# Altium schematic symbol library 610 0xx 119 21.SchLib: 12 symbols
Pins are listed as number, name and electrical type; pins without a type are passive.

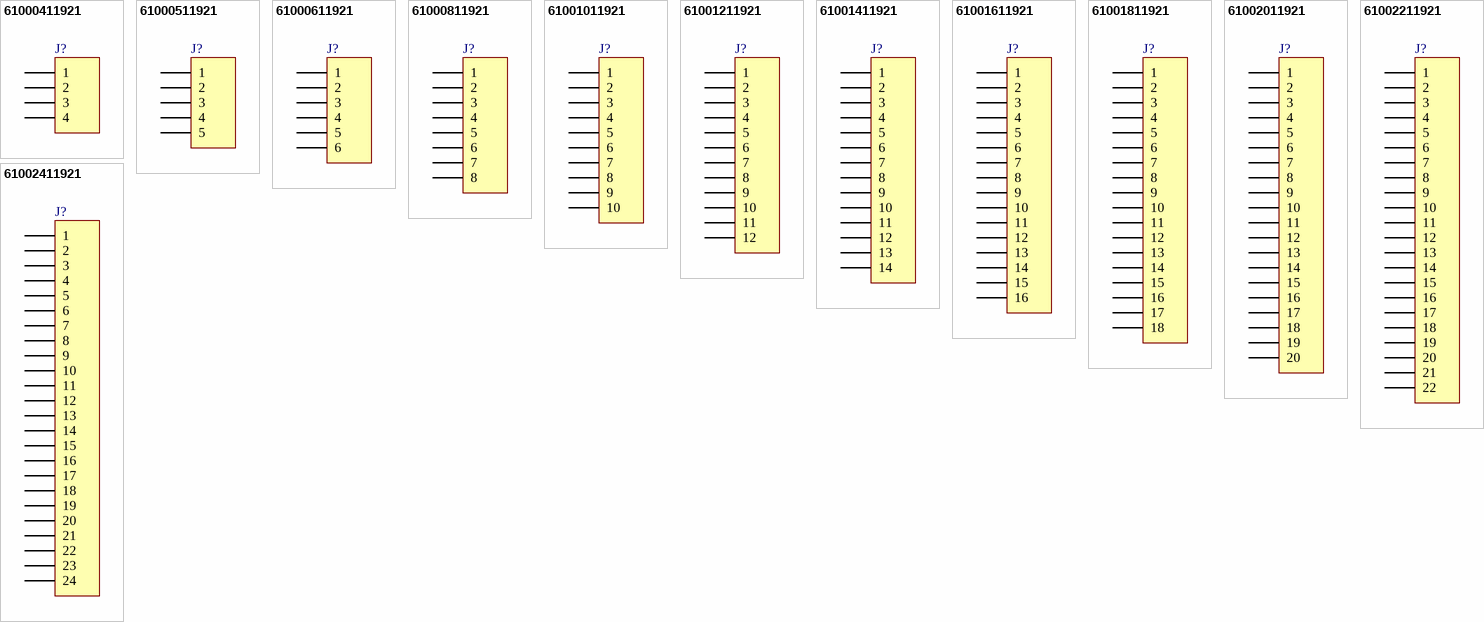
[diagram p0: symbols 61000411921 to 61002411921]

## 61000411921
designator J?, comment 04p  (value not drawn)
WR-PHD 2.54 mm SMT Socket Header, 04p; PartNumber: 61000411921; PublishedDate: July 2016; Publisher: Wurth Elektronik; ComponentLink1Description: Manufacturer; ComponentLink1URL: http://www.we-online.de; ComponentLink2Description: Datasheet; ComponentLink2URL: http://katalog.we-online.de/em/datasheet/6100xx11921.pdf; PinNumber: 04p
footprint 61000411921
pins: 1, 2, 3, 4

## 61000511921
designator J?, comment 05p  (value not drawn)
WR-PHD 2.54 mm SMT Socket Header, 05p; PartNumber: 61000511921; PublishedDate: July 2016; Publisher: Wurth Elektronik; ComponentLink1Description: Manufacturer; ComponentLink1URL: http://www.we-online.de; ComponentLink2Description: Datasheet; ComponentLink2URL: http://katalog.we-online.de/em/datasheet/6100xx11921.pdf; PinNumber: 05p
footprint 61000511921
pins: 1, 2, 3, 4, 5

## 61000611921
designator J?, comment 06p  (value not drawn)
WR-PHD 2.54 mm SMT Socket Header, 06p; PartNumber: 61000611921; PublishedDate: July 2016; Publisher: Wurth Elektronik; ComponentLink1Description: Manufacturer; ComponentLink1URL: http://www.we-online.de; ComponentLink2Description: Datasheet; ComponentLink2URL: http://katalog.we-online.de/em/datasheet/6100xx11921.pdf; PinNumber: 06p
footprint 61000611921
pins: 1, 2, 3, 4, 5, 6

## 61000811921
designator J?, comment 08p  (value not drawn)
WR-PHD 2.54 mm SMT Socket Header, 08p; PartNumber: 61000811921; PublishedDate: July 2016; Publisher: Wurth Elektronik; ComponentLink1Description: Manufacturer; ComponentLink1URL: http://www.we-online.de; ComponentLink2Description: Datasheet; ComponentLink2URL: http://katalog.we-online.de/em/datasheet/6100xx11921.pdf; PinNumber: 08p
footprint 61000811921
pins: 1, 2, 3, 4, 5, 6, 7, 8

## 61001011921
designator J?, comment 10p  (value not drawn)
WR-PHD 2.54 mm SMT Socket Header, 10p; PartNumber: 61001011921; PublishedDate: July 2016; Publisher: Wurth Elektronik; ComponentLink1Description: Manufacturer; ComponentLink1URL: http://www.we-online.de; ComponentLink2Description: Datasheet; ComponentLink2URL: http://katalog.we-online.de/em/datasheet/6100xx11921.pdf; PinNumber: 10p
footprint 61001011921
pins: 1, 2, 3, 4, 5, 6, 7, 8, 9, 10

## 61001211921
designator J?, comment 12p  (value not drawn)
WR-PHD 2.54 mm SMT Socket Header, 12p; PartNumber: 61001211921; PublishedDate: July 2016; Publisher: Wurth Elektronik; ComponentLink1Description: Manufacturer; ComponentLink1URL: http://www.we-online.de; ComponentLink2Description: Datasheet; ComponentLink2URL: http://katalog.we-online.de/em/datasheet/6100xx11921.pdf; PinNumber: 12p
footprint 61001211921
pins: 1, 2, 3, 4, 5, 6, 7, 8, 9, 10, 11, 12

## 61001411921
designator J?, comment 14p  (value not drawn)
WR-PHD 2.54 mm SMT Socket Header, 14p; PartNumber: 61001411921; PinNumber: 14; PublishedDate: July 2016; Publisher: Wurth Elektronik; ComponentLink1Description: Manufacturer; ComponentLink1URL: http://www.we-online.de; ComponentLink2Description: Datasheet; ComponentLink2URL: http://katalog.we-online.de/em/datasheet/6100xx11921.pdf
footprint 61001411921 (14 pins, 1 row, straight, Type 1, gold plating)
pins: 1, 2, 3, 4, 5, 6, 7, 8, 9, 10, 11, 12, 13, 14

## 61001611921
designator J?, comment 16p  (value not drawn)
WR-PHD 2.54 mm SMT Socket Header, 16p; PartNumber: 61001611921; PublishedDate: July 2016; Publisher: Wurth Elektronik; ComponentLink1Description: Manufacturer; ComponentLink1URL: http://www.we-online.de; ComponentLink2Description: Datasheet; ComponentLink2URL: http://katalog.we-online.de/em/datasheet/6100xx11921.pdf; PinNumber: 16p
footprint 61001611921 (16 pins, 1 row, straight, Type 1, gold plating)
pins: 1, 2, 3, 4, 5, 6, 7, 8, 9, 10, 11, 12, 13, 14, 15, 16

## 61001811921
designator J?, comment 18p  (value not drawn)
WR-PHD 2.54 mm SMT Socket Header, 18p; PartNumber: 61001811921; PublishedDate: July 2016; Publisher: Wurth Elektronik; ComponentLink1Description: Manufacturer; ComponentLink1URL: http://www.we-online.de; ComponentLink2Description: Datasheet; ComponentLink2URL: http://katalog.we-online.de/em/datasheet/6100xx11921.pdf; PinNumber: 18p
footprint 61001811921 (18 pins, 1 row, straight, Type 1, gold plating)
pins: 1, 2, 3, 4, 5, 6, 7, 8, 9, 10, 11, 12, 13, 14, 15, 16, 17, 18

## 61002011921
designator J?, comment 20p  (value not drawn)
WR-PHD 2.54 mm SMT Socket Header, 20p; PartNumber: 61002011921; PinNumber: 20; PublishedDate: July 2016; Publisher: Wurth Elektronik; ComponentLink1Description: Manufacturer; ComponentLink1URL: http://www.we-online.de; ComponentLink2Description: Datasheet; ComponentLink2URL: http://katalog.we-online.de/em/datasheet/6100xx11921.pdf
footprint 61002011921 (20 pins, 1 row, straight, Type 1, gold plating)
pins: 1, 2, 3, 4, 5, 6, 7, 8, 9, 10, 11, 12, 13, 14, 15, 16, 17, 18, 19, 20

## 61002211921
designator J?, comment 22p  (value not drawn)
WR-PHD 2.54 mm SMT Socket Header, 22p; PartNumber: 61002211921; PublishedDate: July 2016; Publisher: Wurth Elektronik; ComponentLink1Description: Manufacturer; ComponentLink1URL: http://www.we-online.de; ComponentLink2Description: Datasheet; ComponentLink2URL: http://katalog.we-online.de/em/datasheet/6100xx11921.pdf; PinNumber: 22p
footprint 61002211921 (22 pins, 1 row, straight, Type 1, gold plating)
pins: 1, 2, 3, 4, 5, 6, 7, 8, 9, 10, 11, 12, 13, 14, 15, 16, 17, 18, 19, 20, 21, 22

## 61002411921
designator J?, comment 24p  (value not drawn)
WR-PHD 2.54 mm SMT Socket Header, 24p; PartNumber: 61002411921; PublishedDate: July 2016; Publisher: Wurth Elektronik; ComponentLink1Description: Manufacturer; ComponentLink1URL: http://www.we-online.de; ComponentLink2Description: Datasheet; ComponentLink2URL: http://katalog.we-online.de/em/datasheet/6100xx11921.pdf; PinNumber: 24p
footprint 61002411921 (24 pins, 1 row, straight, Type 1, gold plating)
pins: 1, 2, 3, 4, 5, 6, 7, 8, 9, 10, 11, 12, 13, 14, 15, 16, 17, 18, 19, 20, 21, 22, 23, 24